# Altium footprint library DC Jack, 2.1.PcbLib: 1 footprints
Each footprint in its own frame and in the unit in brackets; x right, y up, seen from the top. Pads: shape width x height; smd on the part's side, far side on the other; paste and mask are expansions set on the pad; w line width, h text height; cw(c..) or ccw(c..) is an arc to the next point about the centre after c.
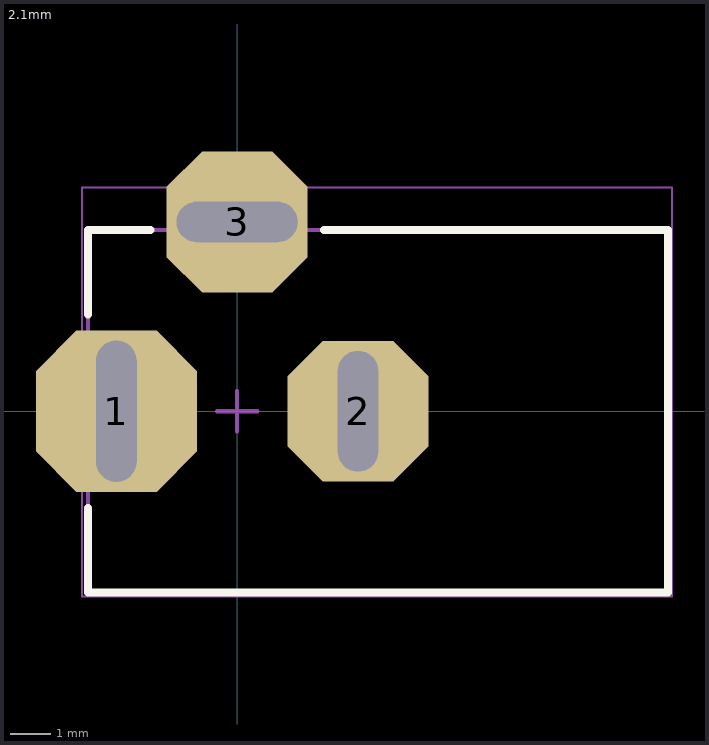
[diagram p0: the footprint, top view; thin cyan lines are the x and y axes]

## 2.1mm [mm] "THD, 3-Leads, Body 14.4x9mm, Height 11mm"
height 11
pads (3):
  oct 4x4 hole 1 slot 3.5 at 90 deg: 1(-3,0)
  oct 3.5x3.5 hole 1 slot 3 at 90 deg: 2(3,0)
  oct 3.5x3.5 hole 1 slot 3 at 0 deg: 3(0,4.7)
Top Overlay:
  circle w0.25: c-4.3,0 r0.125
  lines w0.2: -3.7,-2.4 -3.7,-4.5 10.7,-4.5 10.7,4.5 2.15,4.5 ; -3.7,2.4 -3.7,4.5 -2.15,4.5
Mechanical 13:
  lines w0.1: -3.7,-4.5 -3.7,4.5 10.7,4.5 10.7,-4.5 -3.7,-4.5
Mechanical 15:
  lines w0.05: -3.85,-4.6 -3.85,5.55 10.8,5.55 10.8,-4.6 -3.85,-4.6
  lines w0.1: -0.5,0 0.5,0 ; 0,-0.5 0,0.5
3D body "pj-002a.stp": height 11, standoff -3.5, extent -3.7,-4.5 10.7,4.9